# EAGLE library part W5500 (library IC)
IC CTLR 3-1 ETH TCP/IP 48LQFP Manufacturer's datasheet <http://wizwiki.net/wiki/lib/exe/fetch.php?media=products:w5500:w5500_ds_v108e.pdf>
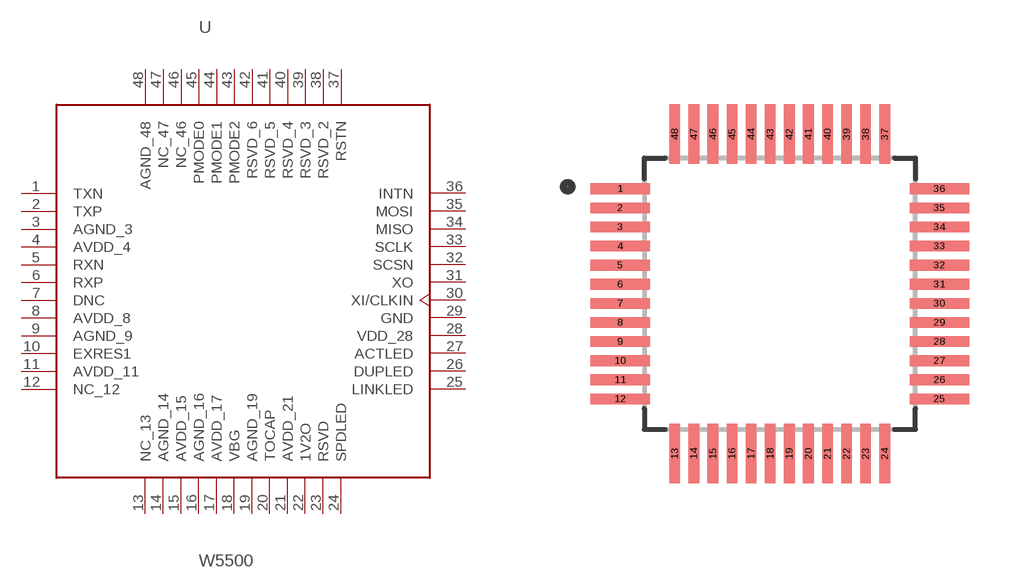
[diagram p23: symbol with the pads of LQFP-48; footprint LQFP-48]

Designator prefix U

## W5500 (CREATED_BY: PCBLayout.com; DIGI-KEYPARTNUMBER: 1278-1021-ND; MANUFACTURER: WIZnet; MPN: W5500; PACKAGE: 48-LQFP)  [LQFP-48]
1  TXN  out
2  TXP  out
3  AGND_3  pwr
4  AVDD_4  pwr
5  RXN  in
6  RXP  in
7  DNC
8  AVDD_8  pwr
9  AGND_9  pwr
10  EXRES1
11  AVDD_11  pwr
12  NC_12  pas
13  NC_13  pas
14  AGND_14  pwr
15  AVDD_15  pwr
16  AGND_16  pwr
17  AVDD_17  pwr
18  VBG  out
19  AGND_19  pwr
20  TOCAP  out
21  AVDD_21  pwr
22  1V2O  out
23  RSVD  in
24  SPDLED  out
25  LINKLED  out
26  DUPLED  out
27  ACTLED  out
28  VDD_28  pwr
29  GND  pwr
30  XI/CLKIN  in
31  XO  out
32  SCSN  in
33  SCLK  in
34  MISO  out
35  MOSI  in
36  INTN  out
37  RSTN  in
38  RSVD_2  in
39  RSVD_3  in
40  RSVD_4  pwr
41  RSVD_5  pwr
42  RSVD_6  in
43  PMODE2  in
44  PMODE1  in
45  PMODE0  in
46  NC_46  pas
47  NC_47  pas
48  AGND_48  pwr

## Footprint LQFP-48 (pad centres in mm)
smd 1.56 x 0.28: 1 -4.18,2.75; 2 -4.18,2.25; 3 -4.18,1.75; 4 -4.18,1.25; 5 -4.18,0.75; 6 -4.18,0.25; 7 -4.18,-0.25; 8 -4.18,-0.75; 9 -4.18,-1.25; 10 -4.18,-1.75; 11 -4.18,-2.25; 12 -4.18,-2.75; 25 4.18,-2.75; 26 4.18,-2.25; 27 4.18,-1.75; 28 4.18,-1.25; 29 4.18,-0.75; 30 4.18,-0.25; 31 4.18,0.25; 32 4.18,0.75; 33 4.18,1.25; 34 4.18,1.75; 35 4.18,2.25; 36 4.18,2.75
smd 0.28 x 1.56: 13 -2.75,-4.18; 14 -2.25,-4.18; 15 -1.75,-4.18; 16 -1.25,-4.18; 17 -0.75,-4.18; 18 -0.25,-4.18; 19 0.25,-4.18; 20 0.75,-4.18; 21 1.25,-4.18; 22 1.75,-4.18; 23 2.25,-4.18; 24 2.75,-4.18; 37 2.75,4.18; 38 2.25,4.18; 39 1.75,4.18; 40 1.25,4.18; 41 0.75,4.18; 42 0.25,4.18; 43 -0.25,4.18; 44 -0.75,4.18; 45 -1.25,4.18; 46 -1.75,4.18; 47 -2.25,4.18; 48 -2.75,4.18